# Altium schematic symbol library BSS138.SchLib: 1 symbol
Pins are listed as number, name and electrical type; pins without a type are passive.

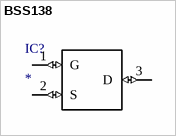
[diagram p0: symbol BSS138]

## BSS138
designator IC?
Integrated Circuit; Manufacturer_Name: Fairchild Semiconductor; Manufacturer_Part_Number: BSS138; Datasheet Link: http://docs-emea.rs-online.com/webdocs/0d22/0900766b80d22ec5.pdf; Height: 1.2mm; Mouser Part Number: 512-BSS138; Mouser Price/Stock: https://www.mouser.com/Search/Refine.aspx?Keyword=512-BSS138; RS Part Number: 1241694; RS Price/Stock: http://uk.rs-online.com/web/p/products/1241694
footprint SOT95P240X120-3N
pins: 1 G (io), 2 S (io), 3 D (io)